# Altium schematic symbol library LM5116MHX_NOPB.SchLib: 1 symbol
Pins are listed as number, name and electrical type; pins without a type are passive.

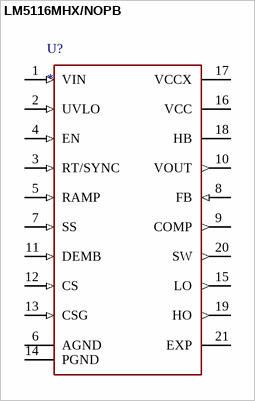
[diagram p0: symbol LM5116MHX/NOPB]

## LM5116MHX/NOPB
designator U?
6-100V Wide Vin, Current Mode Synchronous Buck Controller; MF: Texas Instruments; MP: LM5116MHX/NOPB; SnapEDA_Link: https://www.snapeda.com/parts/LM5116MHX/NOPB/Texas+Instruments/view-part/?ref=snap; Package: HTSSOP-20 Texas Instruments; Value: *; Check_prices: https://www.snapeda.com/parts/LM5116MHX/NOPB/Texas+Instruments/view-part/?ref=eda
footprint SOP65P640X110-21N
pins: 1 VIN (in), 2 UVLO (in), 3 RT/SYNC (in), 4 EN (in), 5 RAMP (in), 6 AGND (power), 7 SS (in), 8 FB (in), 9 COMP (out), 10 VOUT (out), 11 DEMB (in), 12 CS (in), 13 CSG (in), 14 PGND (power), 15 LO (out), 16 VCC (power), 17 VCCX (power), 18 HB (power), 19 HO (out), 20 SW (out), 21 EXP (power)